# EAGLE library part RFD22301 (library RF-Digital)
RFD22301 RFduino SMT Module RFD22301 Datasheet: http://www.rfdigital.com/wp-content/uploads/2014/03/RFD22301.Data_.Sheet_.11.24.13_11.38PM.pdf
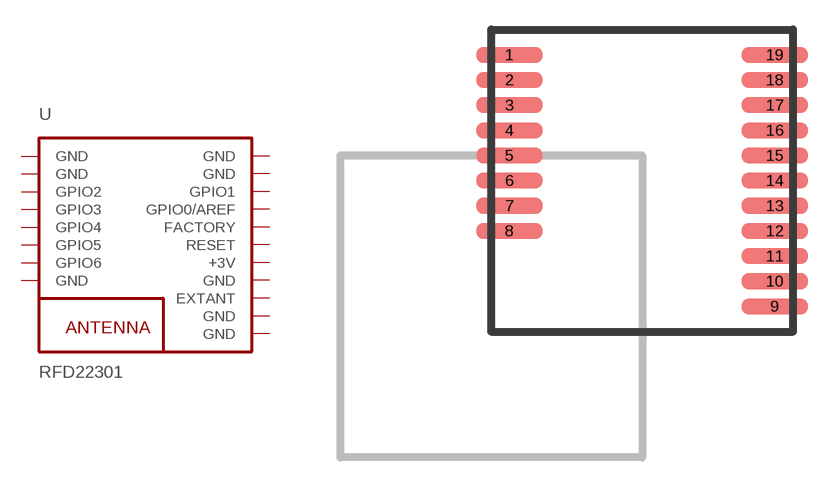
[diagram p0: symbol with the pads of RFD22301; footprint RFD22301]

Designator prefix U

## RFD22301  [RFD22301]
1  GND  pwr
2  GND  pwr
3  GPIO2
4  GPIO3
5  GPIO4
6  GPIO5
7  GPIO6
8  GND  pwr
9  GND  pwr
10  GND  pwr
11  EXTANT  nc
12  GND  pwr
13  +3V  pwr
14  RESET
15  FACTORY
16  GPIO0/AREF
17  GPIO1
18  GND  pwr
19  GND  pwr

## Footprint RFD22301 (pad centres in mm)
RFD22301 Layout
smd 3.353 x 0.813: 1 0.914,13.97; 2 0.914,12.7; 3 0.914,11.43; 4 0.914,10.16; 5 0.914,8.89; 6 0.914,7.62; 7 0.914,6.35; 8 0.914,5.08; 9 14.326,1.27; 10 14.326,2.54; 11 14.326,3.81; 12 14.326,5.08; 13 14.326,6.35; 14 14.326,7.62; 15 14.326,8.89; 16 14.326,10.16; 17 14.326,11.43; 18 14.326,12.7; 19 14.326,13.97